# Altium footprint library QFN.PcbLib: 33 footprints (part 3 of 3)
Each footprint in its own frame and in the unit in brackets; x right, y up, seen from the top. Pads: shape width x height; smd on the part's side, far side on the other; paste and mask are expansions set on the pad; w line width, h text height; cw(c..) or ccw(c..) is an arc to the next point about the centre after c.
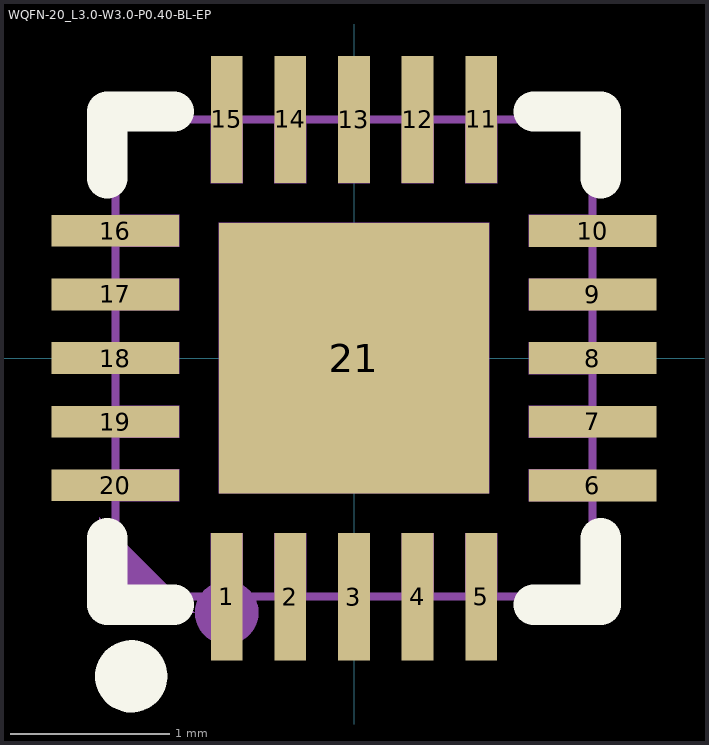
[diagram p2: the footprint, top view; thin cyan lines are the x and y axes]

## WQFN-20_L3.0-W3.0-P0.40-BL-EP [mm]
pads (21):
  rect 0.2x0.8 smd paste+0 mask+0.051: 1(-0.8,-1.5) 2(-0.4,-1.5) 3(0,-1.5) 4(0.4,-1.5) 5(0.8,-1.5) 11(0.8,1.5) 12(0.4,1.5) 13(0,1.5) 14(-0.4,1.5) 15(-0.8,1.5)
  rect 0.8x0.2 smd paste+0 mask+0.051: 6(1.5,-0.8) 7(1.5,-0.4) 8(1.5,0) 9(1.5,0.4) 10(1.5,0.8) 16(-1.5,0.8) 17(-1.5,0.4) 18(-1.5,0) 19(-1.5,-0.4) 20(-1.5,-0.8)
  rect 1.7x1.7 smd paste+0 mask+0.051: 21(0,0)
Top Overlay:
  circle w0.254: c-1.4,-2 r0.1
  lines w0.254: -1.55,-1.131 -1.55,-1.55 -1.131,-1.55 ; -1.55,1.131 -1.55,1.55 -1.131,1.55 ; 1.131,-1.55 1.55,-1.55 1.55,-1.131 ; 1.131,1.55 1.55,1.55 1.55,1.131
Mechanical 6:
  circle w0.2: c-0.8,-1.6 r0.1
  region: -1.6,-1.6 -1.6,-1 -1,-1.6
Mechanical 15:
  region: -0.85,-0.85 -0.85,0.85 0.85,0.85 0.85,-0.85
  region: -0.7,-1.5 -0.9,-1.5 -0.9,-1.1 -0.7,-1.1
  region: -0.3,-1.5 -0.5,-1.5 -0.5,-1.1 -0.3,-1.1
  region: 0.1,-1.5 -0.1,-1.5 -0.1,-1.1 0.1,-1.1
  region: 0.5,-1.5 0.3,-1.5 0.3,-1.1 0.5,-1.1
  region: 0.9,-1.5 0.7,-1.5 0.7,-1.1 0.9,-1.1
  region: 1.5,-0.7 1.5,-0.9 1.1,-0.9 1.1,-0.7
  region: 1.5,-0.3 1.5,-0.5 1.1,-0.5 1.1,-0.3
  region: 1.5,0.1 1.5,-0.1 1.1,-0.1 1.1,0.1
  region: 1.5,0.5 1.5,0.3 1.1,0.3 1.1,0.5
  region: 1.5,0.9 1.5,0.7 1.1,0.7 1.1,0.9
  region: 0.9,1.1 0.7,1.1 0.7,1.5 0.9,1.5
  region: 0.5,1.1 0.3,1.1 0.3,1.5 0.5,1.5
  region: 0.1,1.1 -0.1,1.1 -0.1,1.5 0.1,1.5
  region: -0.3,1.1 -0.5,1.1 -0.5,1.5 -0.3,1.5
  region: -0.7,1.1 -0.9,1.1 -0.9,1.5 -0.7,1.5
  region: -1.5,0.7 -1.5,0.9 -1.1,0.9 -1.1,0.7
  region: -1.5,0.3 -1.5,0.5 -1.1,0.5 -1.1,0.3
  region: -1.5,-0.1 -1.5,0.1 -1.1,0.1 -1.1,-0.1
  region: -1.5,-0.5 -1.5,-0.3 -1.1,-0.3 -1.1,-0.5
  region: -1.5,-0.9 -1.5,-0.7 -1.1,-0.7 -1.1,-0.9
  region: -1.5,-1.56 -1.475,-1.56 -1.44,-1.525 -1.44,-1.475 -1.475,-1.44 -1.5,-1.44 -1.525,-1.44 -1.56,-1.475 -1.56,-1.525 -1.525,-1.56 -1.5,-1.56
  lines w0.051: -1.5,-1.5 1.5,-1.5 1.5,1.5 -1.5,1.5 -1.5,-1.5